# EAGLE library part 55917-2030 (library relay_computer_custom)
20 Pin - 2mm Dual Row Single Wafer, Vertical T/H HDR Source: http://www.molex.com/pdm_docs/sd/5591720 30_sd.pdf
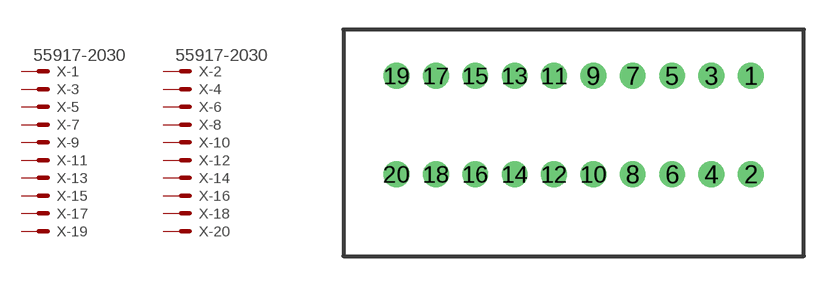
[diagram p3: symbol with the pads of 55917-2030; footprint 55917-2030]

Designator prefix X; gates -1=MV -2=MV -3=M -4=M -5=M -6=M -7=M -8=M -9=M -10=M -11=M -12=M -13=M -14=M -15=M -17=M -19=M -16=M -18=M -20=M

## 55917-2030  [55917-2030]
1  -1:S  pas
2  -2:S  pas
3  -3:S  pas
4  -4:S  pas
5  -5:S  pas
6  -6:S  pas
7  -7:S  pas
8  -8:S  pas
9  -9:S  pas
10  -10:S  pas
11  -11:S  pas
12  -12:S  pas
13  -13:S  pas
14  -14:S  pas
15  -15:S  pas
16  -16:S  pas
17  -17:S  pas
18  -18:S  pas
19  -19:S  pas
20  -20:S  pas

## Footprint 55917-2030 (pad centres in mm)
20 Pin - 2mm Dual Row Single Wafer, Vertical T/H HDR Source: http://www.molex.com/pdm_docs/sd/559172030_sd.pdf
drill 0.8: 1 9,2.5; 2 9,-2.5; 3 7,2.5; 4 7,-2.5; 5 5,2.5; 6 5,-2.5; 7 3,2.5; 8 3,-2.5; 9 1,2.5; 10 1,-2.5; 11 -1,2.5; 12 -1,-2.5; 13 -3,2.5; 14 -3,-2.5; 15 -5,2.5; 16 -5,-2.5; 17 -7,2.5; 18 -7,-2.5; 19 -9,2.5; 20 -9,-2.5